# EAGLE library part DIR9001 (library ic-TI)
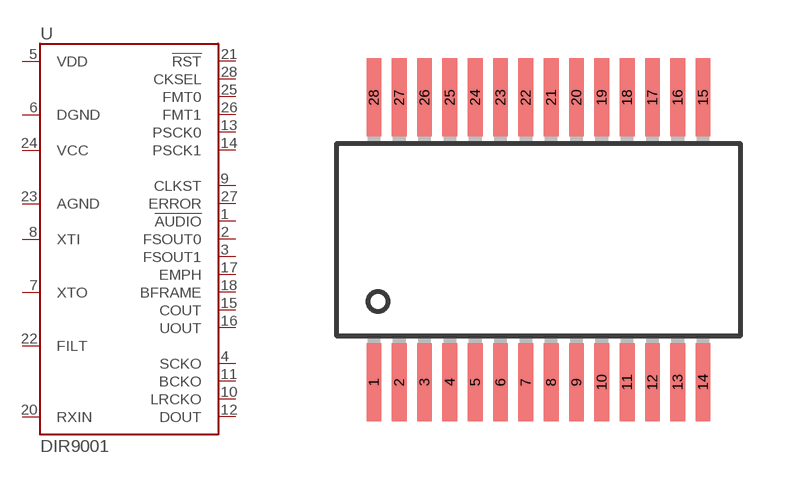
[diagram p26: symbol with the pads of SSOP28; footprint SSOP28]

Designator prefix U

## DIR9001  [SSOP28]
1  !AUDIO
2  FSOUT0
3  FSOUT1
4  SCKO
5  VDD
6  DGND
7  XTO
8  XTI
9  CLKST
10  LRCKO
11  BCKO
12  DOUT
13  PSCK0
14  PSCK1
15  COUT
16  UOUT
17  EMPH
18  BFRAME
20  RXIN
21  !RST
22  FILT
23  AGND
24  VCC
25  FMT0
26  FMT1
27  ERROR
28  CKSEL

## Footprint SSOP28 (pad centres in mm)
smd 0.381 x 2: 1 -4.225,-3.656; 2 -3.575,-3.656; 3 -2.925,-3.656; 4 -2.275,-3.656; 5 -1.625,-3.656; 6 -0.975,-3.656; 7 -0.325,-3.656; 8 0.325,-3.656; 9 0.975,-3.656; 10 1.625,-3.656; 11 2.275,-3.656; 12 2.925,-3.656; 13 3.575,-3.656; 14 4.225,-3.656; 15 4.225,3.656; 16 3.575,3.656; 17 2.925,3.656; 18 2.275,3.656; 19 1.625,3.656; 20 0.975,3.656; 21 0.325,3.656; 22 -0.325,3.656; 23 -0.975,3.656; 24 -1.625,3.656; 25 -2.275,3.656; 26 -2.925,3.656; 27 -3.575,3.656; 28 -4.225,3.656